# Altium schematic symbol library Handheld.SchLib: 57 symbols (part 2 of 2)
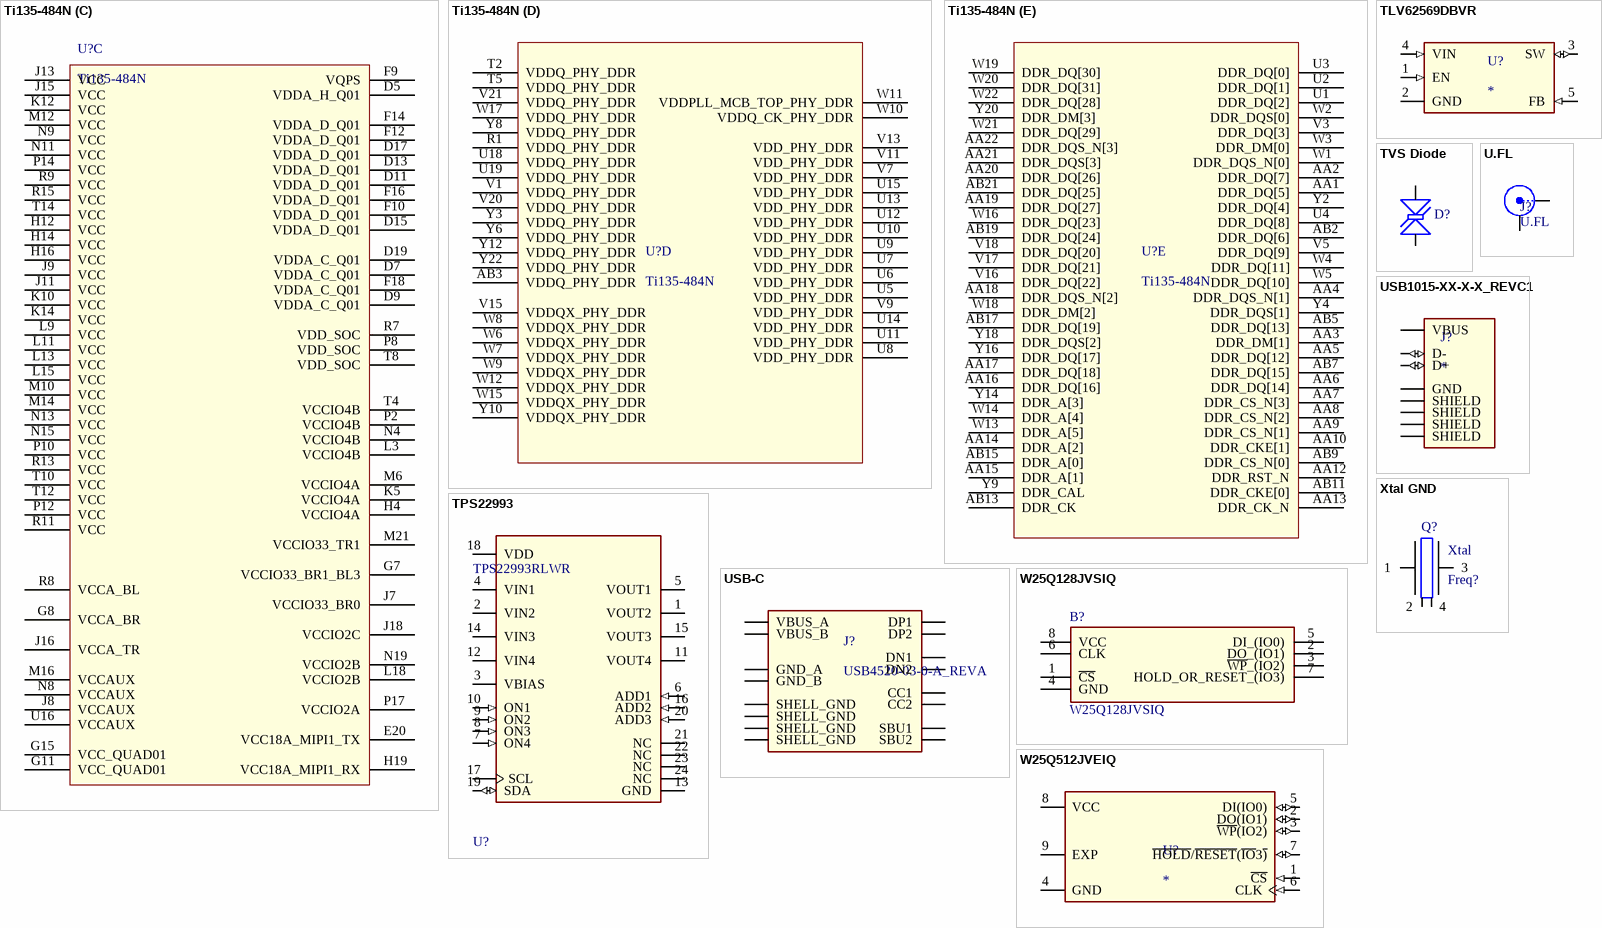
[diagram p5: symbols Ti135-484N to Xtal GND]

## Ti135-484N
designator U?
part A pins: A2 GPIOB_N_28_CSI_CLK11_N, CSI, RX_DATA_N5_I6, GPIOB_PN_28, B1, A3 GPIOB_P_28_CSO_CLK11_P, CSO, RX_DATA_P5_I6, GPIOB_PN_28, B1, A5 Q0_RXDP0, A7 Q0_RXDP1, A9 Q0_RXDP2, A11 Q0_RXDP3, A13 Q1_RXDP0, A15 Q1_RXDP1, A17 Q1_RXDP2, A19 Q1_RXDP3, A21 MIPI1_TXDN4, B1 GPIOB_N_21_CLK7_N, RX_DATA_N3_I7, GPIOB_PN_21, B1, B2 GPIOB_P_21_CLK7_P, RX_DATA_P3_I7, GPIOB_PN_21, B1, B5 Q0_RXDN0, B7 Q0_RXDN1, B9 Q0_RXDN2, B11 Q0_RXDN3, B13 Q1_RXDN0, B15 Q1_RXDN1, B17 Q1_RXDN2, B19 Q1_RXDN3, B21 MIPI1_TXDP4, B22 MIPI1_TXDN3, C1 GPIOB_N_25_SSL_N, SSL_N, RX_DATA_N3_I6, GPIOB_PN_25, B1, C2 GPIOB_P_25_CDI3_PLLIN0, CDI3, RX_DATA_P3_I6, GPIOB_PN_25, B1, C4 Q0_TXDP0, C6 Q0_TXDP1, C8 Q0_TXDP2, C10 Q0_TXDP3, C12 Q1_TXDP0, C14 Q1_TXDP1, C16 Q1_TXDP2, C18 Q1_TXDP3, C21 MIPI1_TXDN2, C22 MIPI1_TXDP3, D2 GPIOB_N_23_CDI6, CDI6, RX_DATA_N1_I6, GPIOB_PN_23, B1, D4 Q0_TXDN0, D6 Q0_TXDN1, D8 Q0_TXDN2, D10 Q0_TXDN3, D12 Q1_TXDN0, D14 Q1_TXDN1, D16 Q1_TXDN2, D18 Q1_TXDN3, D21 MIPI1_TXDP2, E1 GPIOB_P_22_EXTFB, RX_DATA_P0_I6, GPIOB_PN_22, B1, E2 GPIOB_P_23_CDI7_PLLIN0, CDI7, RX_DATA_P1_I6, VREF4A, GPIOB_PN_23, B1, E11 Q0_REFCLK0_P, E13 Q0_REFCLK1_P, E15 Q1_REFCLK0_P, E17 Q1_REFCLK1_P, E21 MIPI1_TXDN1, E22 MIPI1_TXDP1, F1 GPIOB_N_22, RX_DATA_N0_I6, GPIOB_PN_22, B1, F2 GPIOB_N_24_CDI4, CDI4, RX_DATA_N2_I6, GPIOB_PN_24, B1, F3 GPIOB_P_24_CDI5_EXTFB, CDI5, RX_DATA_P2_I6, GPIOB_PN_24, B1, F4 GPIOL_26_CLK24, L0, F5 GPIOL_34_PLLIN1, DDR_PLL_REFCLK, L1, F6 TDO, TDO, F7 TMS, TMS, F8 TCK, TCK, F11 Q0_REFCLK0_N, F13 Q0_REFCLK1_N, F15 Q1_REFCLK0_N, F17 Q1_REFCLK1_N, F20 MIPI1_RXDN4, F21 MIPI1_TXDN0, F22 MIPI1_TXDP0, G2 GPIOB_P_18_CLK5_P, RX_DATA_P1_I7, GPIOB_PN_18, B1, G3 GPIOB_N_26_CDI2, CDI2, RX_CLK_N_I6, GPIOB_PN_26, B1, G4 GPIOB_P_26_CCK, CCK, RX_CLK_P_I6, GPIOB_PN_26, B1, G5 REF_RES_4A, G6 GPIOL_28, L0, G9 TDI, TDI, G10 CRESET_N, CRESET_N, G13 Q0_CAL_RES, G17 Q1_CAL_RES, G20 MIPI1_RXDP4, G22 MIPI1_RXDN3, H1 GPIOB_P_19_CBSEL1, CBSEL1, RX_CLK_P_I7, GPIOB_PN_19, B1, H2 GPIOB_N_18_CLK5_N, RX_DATA_N1_I7, GPIOB_PN_18, B1, H3 GPIOB_P_16_CDI9_CLK3_P, CDI9, RX_DATA_P7_I8, GPIOB_PN_16, B1, H5 GPIOR_132, B1, H6 GPIOL_27_CLK25, L0, H7 GPIOL_31, L1, H8 GPIOL_33, L1, H9 GPIOL_32_PLLIN1, DDR_PLL_REFCLK, L1, H10 CDONE, CDONE, H11 JTAG_VCCIO_SEL,  JTAG_VCCIO_SEL, H20 MIPI1_RXDN2, H21 MIPI1_RXDP2, H22 MIPI1_RXDP3, J1 GPIOB_N_19_CBSEL0, CBSEL0, RX_CLK_N_I7, GPIOB_PN_19, B1, J3 GPIOB_N_16_CDI8_CLK3_N, CDI8, RX_DATA_N7_I8, GPIOB_PN_16, B1, J4 GPIOB_N_27_CDI0_CLK10_N, CDI0, RX_DATA_N4_I6, GPIOB_PN_27, B1, J5 GPIOB_P_27_CDI1_CLK10_P, CDI1, RX_DATA_P4_I6, GPIOB_PN_27, B1, J6 GPIOR_131_PERST_Q0_N, B1, J17 GPIOT_P_34_PLLIN0, RX_DATA_P3_I5, GPIOT_PN_34, T1, J19 GPIOT_P_35, RX_CLK_P_I5, GPIOT_PN_35, T1, J20 MIPI1_RXDN1, J21 MIPI1_RXDP1, K1 GPIOB_P_13_CLK0_P, RX_DATA_P4_I8, GPIOB_PN_13, B1, K2 GPIOB_P_08, RX_DATA_P0_I8, GPIOB_PN_08, B0, K3 GPIOB_N_08, RX_DATA_N0_I8, GPIOB_PN_08, B0, K4 GPIOB_P_20_EXTSPICLK_CLK6_P, EXT_CONFIG_CLK, RX_DATA_P2_I7, GPIOB_PN_20, B1, K6 GPIOR_129_PLLIN1, B1, K7 GPIOR_128_CLK9, B1, K8 GPIOR_125, B1, K16 GPIOT_P_39_CLK15_P, RX_DATA_P7_I5, GPIOT_PN_39, T1, K17 GPIOT_N_39_CLK15_N, RX_DATA_N7_I5, GPIOT_PN_39, T1, K18 GPIOT_N_34, RX_DATA_N3_I5, GPIOT_PN_34, T1, K19 GPIOT_N_35, RX_CLK_N_I5, GPIOT_PN_35, T1, K21 MIPI1_RXDN0, K22 MIPI1_RXDP0, L1 GPIOB_N_13_CLK0_N, RX_DATA_N4_I8, GPIOB_PN_13, B1, L2 GPIOB_P_06_PLLIN0, RX_DATA_P2_I9, DDR_PLL_REFCLK, GPIOB_PN_06, B0, L4 GPIOB_N_20_SSU_N_CLK6_N, SSU_N, RX_DATA_N2_I7, GPIOB_PN_20, B1, L5 GPIOB_P_09, RX_DATA_P1_I8, VREF4B, GPIOB_PN_09, B0, L6 GPIOB_P_17_NSTATUS_CLK4_P, NSTATUS, RX_DATA_P0_I7, GPIOB_PN_17, B1, L7 GPIOB_N_17_TEST_N_CLK4_N, TEST_N, RX_DATA_N0_I7, GPIOB_PN_17, B1, L8 GPIOR_130_PLLIN1, B1, L16 REF_RES_2C, L17 GPIOT_N_20, RX_DATA_N3_I3, GPIOT_PN_20, T0,T1, L19 GPIOT_P_37_CDI23_PLLIN0, RX_DATA_P5_I5, GPIOT_PN_37, T1, L20 GPIOT_N_37_CDI22, RX_DATA_N5_I5, GPIOT_PN_37, T1, L21 GPIOR_83, R11, L22 GPIOR_84, R11, M2 GPIOB_N_06_CDI18, RX_DATA_N2_I9, GPIOB_PN_06, B0, M3 GPIOB_N_15_CDI10_CLK2_N, CDI10, RX_DATA_N6_I8, GPIOB_PN_15, B1, M4 GPIOB_P_15_CDI11_CLK2_P, CDI11, RX_DATA_P6_I8, GPIOB_PN_15, B1, M5 GPIOB_N_09, RX_DATA_N1_I8, GPIOB_PN_09, B0, M7 REF_RES_4B, M8 GPIOR_127_CLK8, B1, M17 GPIOT_P_20_PLLIN0, RX_DATA_P3_I3, GPIOT_PN_20, T0,T1, M18 GPIOT_P_19_EXTFB, RX_DATA_P2_I3, GPIOT_PN_19, T0, M19 GPIOT_N_19, RX_DATA_N2_I3, GPIOT_PN_19, T0, M20 GPIOR_78_PLLIN1, R11, M22 GPIOR_82, MIPI1_PLL_REFCLK, R11, N1 GPIOB_P_04_EXTFB, RX_DATA_P1_I9, GPIOB_PN_04, B0, N2 GPIOB_N_12_CDI12, CDI12, RX_CLK_N_I8, GPIOB_PN_12, B1, N3 GPIOB_P_12_CDI13, CDI13, RX_CLK_P_I8, GPIOB_PN_12, B1, N5 GPIOB_N_11_CDI14, CDI14, RX_DATA_N3_I8, GPIOB_PN_11, B0,B1, N6 GPIOB_P_11_CDI15, CDI15, RX_DATA_P3_I8, GPIOB_PN_11, B0,B1, N7 GPIOB_P_00_PLLIN0, DDR_PLL_REFCLK, GPIOB_PN_00, B0, N16 GPIOT_N_02, RX_CLK_N_I0, GPIOT_PN_02, T0, N17 GPIOT_P_02, RX_CLK_P_I0, GPIOT_PN_02, T0, N18 GPIOT_N_18, RX_DATA_N1_I3, GPIOT_PN_18, T0, N20 GPIOR_79, R11, N21 GPIOR_80_CLK12, R11, N22 GPIOR_81_CLK13, R11, P1 GPIOB_N_04, RX_DATA_N1_I9, GPIOB_PN_04, B0, P3 GPIOB_N_05, RX_CLK_N_I9, GPIOB_PN_05, B0, P4 GPIOB_P_05, RX_CLK_P_I9, GPIOB_PN_05, B0, P5 GPIOB_P_14_CLK1_P, RX_DATA_P5_I8, GPIOB_PN_14, B1, P6 GPIOB_N_00, GPIOB_PN_00, B0, P16 REF_RES_2A, P18 GPIOT_N_04_CLK31_N, RX_DATA_N3_I0, GPIOT_PN_04, T0, P19 GPIOT_P_18, RX_DATA_P1_I3, VREF2B, GPIOT_PN_18, T0, P20 GPIOT_P_17, RX_DATA_P0_I3, GPIOT_PN_17, T0, P21 GPIOT_N_17, RX_DATA_N0_I3, GPIOT_PN_17, T0, R2 GPIOB_N_03, RX_DATA_N0_I9, GPIOB_PN_03, B0, R3 GPIOB_P_03_PLLIN0, RX_DATA_P0_I9, DDR_PLL_REFCLK, GPIOB_PN_03, B0, R4 GPIOB_N_14_CLK1_N, RX_DATA_N5_I8, GPIOB_PN_14, B1, R6 GPIOB_P_07_EXTFB, RX_DATA_P3_I9, GPIOB_PN_07, B0, R16 GPIOT_N_01_CLK27_N, RX_DATA_N1_I0, GPIOT_PN_01, T0, R17 GPIOT_P_04_CLK31_P, RX_DATA_P3_I0, GPIOT_PN_04, T0, R18 GPIOT_N_22_CLK16_N, RX_DATA_N4_I3, GPIOT_PN_22, T1, R19 GPIOT_N_21, RX_CLK_N_I3, GPIOT_PN_21, T1, R21 GPIOT_P_25_CLK19_P, RX_DATA_P7_I3, GPIOT_PN_25, T1, R22 GPIOT_N_25_CLK19_N, RX_DATA_N7_I3, GPIOT_PN_25, T1, T6 GPIOB_N_07, RX_DATA_N3_I9, GPIOB_PN_07, B0, T16 GPIOT_P_00_CLK26_P, T0, T17 GPIOT_P_01_CLK27_P, RX_DATA_P1_I0, GPIOT_PN_01, T0, T19 GPIOT_P_22_CLK16_P, RX_DATA_P4_I3, GPIOT_PN_22, T1, T20 GPIOT_P_21, RX_CLK_P_I3, GPIOT_PN_21, T1, T21 GPIOT_N_24_CLK18_N, RX_DATA_N6_I3, GPIOT_PN_24, T1, T22 GPIOT_N_23_CLK17_N, RX_DATA_N5_I3, GPIOT_PN_23, T1, U20 GPIOT_P_24_CLK18_P, RX_DATA_P6_I3, GPIOT_PN_24, T1, U22 GPIOT_P_23_CLK17_P, RX_DATA_P5_I3, GPIOT_PN_23, T1
part B pins: A1 GND, A4 GND, A6 GND, A8 GND, A10 GND, A12 GND, A14 GND, A16 GND, A18 GND, A20 GND, A22 GND, AA11 NC, AB1 GND, AB4 GND, AB6 GND, AB8 GND, AB10 GND, AB12 GND, AB14 GND, AB16 GND, AB18 GND, AB20 GND, AB22 GND, B3 GND, B4 GND, B6 GND, B8 GND, B10 GND, B12 GND, B14 GND, B16 GND, B18 GND, B20 GND, C3 GND, C5 GND, C7 GND, C9 GND, C11 GND, C13 GND, C15 GND, C17 GND, C19 GND, C20 GND, D1 GND, D3 GND, D20 GND, D22 GND, E3 GND, E4 GND, E5 GND, E6 GND, E7 GND, E8 GND, E9 GND, E10 GND, E12 GND, E14 GND, E16 GND, E18 GND, E19 GND, F19 GND, G1 GND, G12 GND, G14 GND, G16 GND, G18 GND, G19 GND, G21 GND, H13 GND, H15 GND, H17 GND, H18 GND, J2 GND, J10 GND, J12 GND, J14 GND, J22 GND, K9 GND, K11 GND, K13 GND, K15 GND, K20 GND, L10 GND, L12 GND, L14 GND, M1 GND, M9 GND, M11 GND, M13 GND, M15 GND, N10 GND, N12 GND, N14 GND, P7 GND, P9 GND, P11 GND, P13 GND, P15 GND, P22 GND, R5 GND, R10 GND, R12 GND, R14 GND, R20 GND, T1 GND, T3 GND, T7 GND, T9 GND, T11 GND, T13 GND, T15 GND, T18 GND, U17 GND, U21 GND, V2 GND, V4 GND, V6 GND, V8 GND, V10 GND, V12 GND, V14 GND, V19 GND, V22 GND, Y1 GND, Y5 GND, Y7 GND, Y11 NC, Y13 GND, Y15 GND, Y17 GND, Y19 GND, Y21 GND
part C pins: D5 VDDA_H_Q01, D7 VDDA_C_Q01, D9 VDDA_C_Q01, D11 VDDA_D_Q01, D13 VDDA_D_Q01, D15 VDDA_D_Q01, D17 VDDA_D_Q01, D19 VDDA_C_Q01, E20 VCC18A_MIPI1_TX, F9 VQPS, F10 VDDA_D_Q01, F12 VDDA_D_Q01, F14 VDDA_D_Q01, F16 VDDA_D_Q01, F18 VDDA_C_Q01, G7 VCCIO33_BR1_BL3, G8 VCCA_BR, G11 VCC_QUAD01, G15 VCC_QUAD01, H4 VCCIO4A, H12 VCC, H14 VCC, H16 VCC, H19 VCC18A_MIPI1_RX, J7 VCCIO33_BR0, J8 VCCAUX, J9 VCC, J11 VCC, J13 VCC, J15 VCC, J16 VCCA_TR, J18 VCCIO2C, K5 VCCIO4A, K10 VCC, K12 VCC, K14 VCC, L3 VCCIO4B, L9 VCC, L11 VCC, L13 VCC, L15 VCC, L18 VCCIO2B, M6 VCCIO4A, M10 VCC, M12 VCC, M14 VCC, M16 VCCAUX, M21 VCCIO33_TR1, N4 VCCIO4B, N8 VCCAUX, N9 VCC, N11 VCC, N13 VCC, N15 VCC, N19 VCCIO2B, P2 VCCIO4B, P8 VDD_SOC, P10 VCC, P12 VCC, P14 VCC, P17 VCCIO2A, R7 VDD_SOC, R8 VCCA_BL, R9 VCC, R11 VCC, R13 VCC, R15 VCC, T4 VCCIO4B, T8 VDD_SOC, T10 VCC, T12 VCC, T14 VCC, U16 VCCAUX
part D pins: AB3 VDDQ_PHY_DDR, R1 VDDQ_PHY_DDR, T2 VDDQ_PHY_DDR, T5 VDDQ_PHY_DDR, U5 VDD_PHY_DDR, U6 VDD_PHY_DDR, U7 VDD_PHY_DDR, U8 VDD_PHY_DDR, U9 VDD_PHY_DDR, U10 VDD_PHY_DDR, U11 VDD_PHY_DDR, U12 VDD_PHY_DDR, U13 VDD_PHY_DDR, U14 VDD_PHY_DDR, U15 VDD_PHY_DDR, U18 VDDQ_PHY_DDR, U19 VDDQ_PHY_DDR, V1 VDDQ_PHY_DDR, V7 VDD_PHY_DDR, V9 VDD_PHY_DDR, V11 VDD_PHY_DDR, V13 VDD_PHY_DDR, V15 VDDQX_PHY_DDR, V20 VDDQ_PHY_DDR, V21 VDDQ_PHY_DDR, W6 VDDQX_PHY_DDR, W7 VDDQX_PHY_DDR, W8 VDDQX_PHY_DDR, W9 VDDQX_PHY_DDR, W10 VDDQ_CK_PHY_DDR, W11 VDDPLL_MCB_TOP_PHY_DDR, W12 VDDQX_PHY_DDR, W15 VDDQX_PHY_DDR, W17 VDDQ_PHY_DDR, Y3 VDDQ_PHY_DDR, Y6 VDDQ_PHY_DDR, Y8 VDDQ_PHY_DDR, Y10 VDDQX_PHY_DDR, Y12 VDDQ_PHY_DDR, Y22 VDDQ_PHY_DDR
part E pins: AA1 DDR_DQ[5], AA2 DDR_DQ[7], AA3 DDR_DM[1], AA4 DDR_DQS_N[1], AA5 DDR_DQ[12], AA6 DDR_DQ[14], AA7 DDR_CS_N[3], AA8 DDR_CS_N[2], AA9 DDR_CS_N[1], AA10 DDR_CKE[1], AA12 DDR_RST_N, AA13 DDR_CK_N, AA14 DDR_A[2], AA15 DDR_A[1], AA16 DDR_DQ[16], AA17 DDR_DQ[18], AA18 DDR_DQS_N[2], AA19 DDR_DQ[27], AA20 DDR_DQ[26], AA21 DDR_DQS[3], AA22 DDR_DQS_N[3], AB2 DDR_DQ[6], AB5 DDR_DQ[13], AB7 DDR_DQ[15], AB9 DDR_CS_N[0], AB11 DDR_CKE[0], AB13 DDR_CK, AB15 DDR_A[0], AB17 DDR_DQ[19], AB19 DDR_DQ[24], AB21 DDR_DQ[25], U1 DDR_DQ[2], U2 DDR_DQ[1], U3 DDR_DQ[0], U4 DDR_DQ[8], V3 DDR_DQ[3], V5 DDR_DQ[9], V16 DDR_DQ[22], V17 DDR_DQ[21], V18 DDR_DQ[20], W1 DDR_DQS_N[0], W2 DDR_DQS[0], W3 DDR_DM[0], W4 DDR_DQ[11], W5 DDR_DQ[10], W13 DDR_A[5], W14 DDR_A[4], W16 DDR_DQ[23], W18 DDR_DM[2], W19 DDR_DQ[30], W20 DDR_DQ[31], W21 DDR_DQ[29], W22 DDR_DQ[28], Y2 DDR_DQ[4], Y4 DDR_DQS[1], Y9 DDR_CAL, Y14 DDR_A[3], Y16 DDR_DQ[17], Y18 DDR_DQS[2], Y20 DDR_DM[3]

## TLV62569DBVR
designator U?
2.5V-5.5V input, 2-A high efficiency step-down buck converter in SOT23 and SOT563 package; MF: Texas Instruments; MP: TLV62569DBVR; SnapEDA_Link: https://www.snapeda.com/parts/TLV62569DBVR/Texas+Instruments/view-part/?ref=snap; Package: SOT-23-5 Texas Instruments; Value: *; Check_prices: https://www.snapeda.com/parts/TLV62569DBVR/Texas+Instruments/view-part/?ref=eda; Supplier 1: DigiKey; Supplier Part Number 1: 296-47360-1-ND; Supplier 2: Mouser; Supplier Part Number 2: 445-SY20018IAAC
footprint SOT95P280X145-5N
pins: 1 EN (in), 2 GND (power), 3 SW (io), 4 VIN (in), 5 FB (in)

## TPS22993
designator U?, comment TPS22993RLWR
IC PWR SWITCH N-CHAN 1:1 20WQFN; Number of Outputs: 4; Max Output Current: 1.2A; Interface: I2C; Output Configuration: High Side; Packaging: Tape and Reel; Case/Package: WFQFN; Lead Free: Lead Free; Max Operating Temperature: 85°C; RoHS Compliant: Yes; Number of Channels: 4; Min Operating Temperature: -40°C; Supplier 1: DigiKey; Supplier Part Number 1: 296-51869-1-ND
footprint FP-RLW0020A-MFG
pins: 1 VOUT2, 2 VIN2 (power), 3 VBIAS (power), 4 VIN1 (power), 5 VOUT1, 6 ADD1 (in), 7 ON4 (in), 8 ON3 (in), 9 ON2 (in), 10 ON1 (in), 11 VOUT4, 12 VIN4 (power), 13 GND (power), 14 VIN3 (power), 15 VOUT3, 16 ADD2 (in), 17 SCL, 18 VDD (power), 19 SDA (io), 20 ADD3 (in), 21 NC, 22 NC, 23 NC, 24 NC

## TVS Diode
designator D?  (value not drawn)
Ultra Low Capacitance 1-line ESD Protection; LatestRevisionDate: 23-Aug-2016; Type: TVS Diode
footprint SLP0603P2X3F (Chip Diode; Body  0.6 x 0.3 mm (LxW typ))
pins: 1 A, 2 K

## U.FL
designator J?
U.FL Hirose RF Connector; LatestRevisionDate: 21-Feb-2012  -  Semtech
footprint U.FL-R-SMT Hirose_2337019-1 (Hirose U.FL RF receptacle - U.FL-R-SMT)
pins: 1 Signal "RF signal", 2 GND "Ground signal", 3 GND "Ground signal"

## USB1015-XX-X-X_REVC1
designator J?
USB-A (USB TYPE-A) USB 2.0 Receptacle Connector 4 Position Board Edge, Cutout; Through Hole, Right Angle; MF: Global Connector Technology; MP: USB1015-GF-L-A; SnapEDA_Link: https://www.snapeda.com/parts/USB1015-GF-L-A/Global+Connector+Technology/view-part/?ref=snap; Package: None; Value: *; Check_prices: https://www.snapeda.com/parts/USB1015-GF-L-A/Global+Connector+Technology/view-part/?ref=eda
footprint GCT_USB1015-XX-X-X_REVC1
pins: 1 VBUS (power), 2 D- (io), 3 D+ (io), 4 GND (power), SH1 SHIELD (power), SH2 SHIELD (power), SH3 SHIELD (power), SH4 SHIELD (power)

## USB-C
designator J?, comment USB4520-03-0-A_REVA
USB Type C Receptacle for USB 2.0, SMT Type Mid Mount, 2.0mm Offset; MF: Global Connector Technology; Design Item ID: USB4520-03-0-A_REVA; Check_prices: https://www.snapeda.com/parts/USB4520-03-0-A/Global+Connector+Technology/view-part/?ref=eda; Value: *; Availability: In Stock; Source: USB4520-03-0-A_REVA.SchLib; Pin Count: 16; SnapEDA_Link: https://www.snapeda.com/parts/USB4520-03-0-A/Global+Connector+Technology/view-part/?ref=snap; Purchase-URL: https://pricing.snapeda.com/search/part/USB4520-03-0-A/?ref=eda; MP: USB4520-03-0-A; Package: None; Price: None; Component Type: Standard; Supplier 1: DigiKey; Supplier Part Number 1: 2073-USB4520-03-0-ACT-ND
footprint GCT_USB4520-03-0-A_REVA
pins: A1_B12 GND_A (power), A4_B9 VBUS_A (power), A5 CC1, A6 DP1, A7 DN1, A8 SBU1, B1_A12 GND_B (power), B4_A9 VBUS_B (power), B5 CC2, B6 DP2, B7 DN2, B8 SBU2, S1 SHELL_GND (power), S2 SHELL_GND (power), S3 SHELL_GND (power), S4 SHELL_GND (power)

## W25Q128JVSIQ
designator B?
128M-bit Serial Flash Memory with uniform 4KB sectors and Dual/Quad SPI; Manufacturer_Name: Winbond; Geometry.Height: 2.16mm; Manufacturer_Part_Number: W25Q128JVSIQ; Mouser Part Number: 454-W25Q128JVSIQ; Mouser Price/Stock: https://www.mouser.co.uk/ProductDetail/Winbond/W25Q128JVSIQ?qs=qSfuJ%252Bfl%2Fd6tLXvPR4fl9w%3D%3D; Arrow Part Number: W25Q128JVSIQ; Arrow Price/Stock: https://www.arrow.com/en/products/w25q128jvsiq/winbond-electronics?utm_currency=USD&region=nac; Datasheet Link: https://www.winbond.com/hq/search-resource-file.jsp?partNo=W25Q128JVSIQ&type=datasheet
footprint SOIC127P790X216-8N
pins: 1 ~{CS}, 2 DO_(IO1), 3 ~{WP}_(IO2), 4 GND, 5 DI_(IO0), 6 CLK, 7 HOLD_OR_RESET_(IO3), 8 VCC

## W25Q512JVEIQ
designator U?
FLASH - NOR Memory IC 512Mb (64M x 8) SPI - Quad I/O 133 MHz 8-WSON (8x6); MF: Winbond Electronics; MP: W25Q512JVEIQ; SnapEDA_Link: https://www.snapeda.com/parts/W25Q512JVEIQ/Winbond/view-part/?ref=snap; Package: Package; Value: *; Check_prices: https://www.snapeda.com/parts/W25Q512JVEIQ/Winbond/view-part/?ref=eda; Supplier 1: DigiKey; Supplier Part Number 1: 256-W25Q512JVEIQ-TUBE-ND
footprint SON127P600X800X80-9N
pins: 1 ~{CS} (in), 2 DO(IO1) (io), 3 ~{WP}(IO2) (io), 4 GND (power), 5 DI(IO0) (io), 6 CLK (in), 7 ~{HOLD}/~{RESET}(~{IO}3~{)} (io), 8 VCC (power), 9 EXP

## Xtal GND
designator Q?, comment Xtal  value Freq?
Crystal with GND pins; LatestRevisionDate: 05-oct-2007  -  Semtech
footprint XTAL_2016_1612 (Crystal SMD 2.0x1.6mm and 1.6x1.2mm)
footprint XTAL_1612 (Crystal SMD 1.6x1.2mm)
pins: 1, 2, 3, 4